# EAGLE library part TPL5110DDCR (library TPL5110)
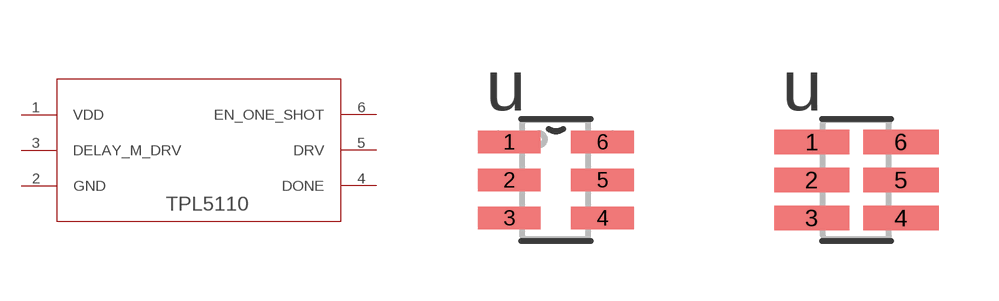
[diagram p0: symbol with the pads of DDC0006A_N; footprints DDC0006A_N, DDC0006A_M]

Designator prefix U

## TPL5110DDCR  [DDC0006A_N]
1  VDD  pwr
2  GND  pwr
3  DELAY_M_DRV  in
4  DONE  in
5  DRV  out
6  EN_ONE_SHOT  out

## TPL5110DDCRDDC0006A_M  [DDC0006A_M]
Pads as for DDC0006A_N

## TPL5110DDCRDDC0006A_L  [DDC0006A_L]
Pads as for DDC0006A_N

## Footprint DDC0006A_N (pad centres in mm)
smd 1.575 x 0.559: 1 -1.168,0.95; 2 -1.168,0; 3 -1.168,-0.95; 4 1.168,-0.95; 5 1.168,0; 6 1.168,0.95

## Footprint DDC0006A_M (pad centres in mm)
smd 1.88 x 0.61: 1 -1.118,0.95; 2 -1.118,0; 3 -1.118,-0.95; 4 1.118,-0.95; 5 1.118,0; 6 1.118,0.95

## Footprint DDC0006A_L (pad centres in mm)
smd 1.27 x 0.508: 1 -1.219,0.95; 2 -1.219,0; 3 -1.219,-0.95; 4 1.219,-0.95; 5 1.219,0; 6 1.219,0.95